# Altium schematic symbol library tinee_timer_components.SchLib: 3 symbols
Pins are listed as number, name and electrical type; pins without a type are passive.

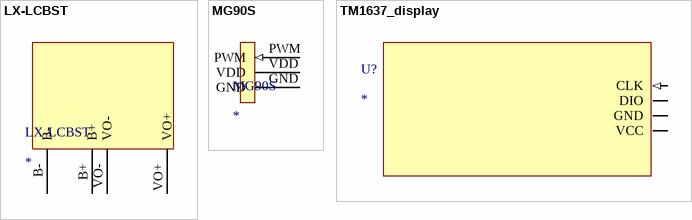
[diagram p0: symbols LX-LCBST to TM1637_display]

## LX-LCBST
designator LX-LCBST
pins: B+ (power), B- (power), VO+ (power), VO- (power)

## MG90S
designator MG90S
pins: GND (power), PWM (in), VDD (power)

## TM1637_display
designator U?
pins: CLK (in), DIO (io), GND (power), VCC (power)